# Altium schematic symbol library TB6612FNG.SchLib: 1 symbol
Pins are listed as number, name and electrical type; pins without a type are passive.

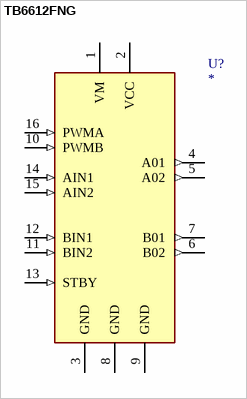
[diagram p0: symbol TB6612FNG]

## TB6612FNG
designator U?
TB6612FNG Dual Motor Driver Module; ComponentLink1Description: Data Sheet; ComponentLink1URL: https://www.pololu.com/file/0J86/TB6612FNG.pdf
footprint TB6612FNG
pins: 1 VM (power), 2 VCC (power), 3 GND (power), 4 A01 (out), 5 A02 (out), 6 B02 (out), 7 B01 (out), 8 GND (power), 9 GND (power), 10 PWMB (in), 11 BIN2 (in), 12 BIN1 (in), 13 STBY (in), 14 AIN1 (in), 15 AIN2 (in), 16 PWMA (in)